# Altium footprint library XY-017.PcbLib: 1 footprints
Each footprint in its own frame and in the unit in brackets; x right, y up, seen from the top. Pads: shape width x height; smd on the part's side, far side on the other; paste and mask are expansions set on the pad; w line width, h text height; cw(c..) or ccw(c..) is an arc to the next point about the centre after c.
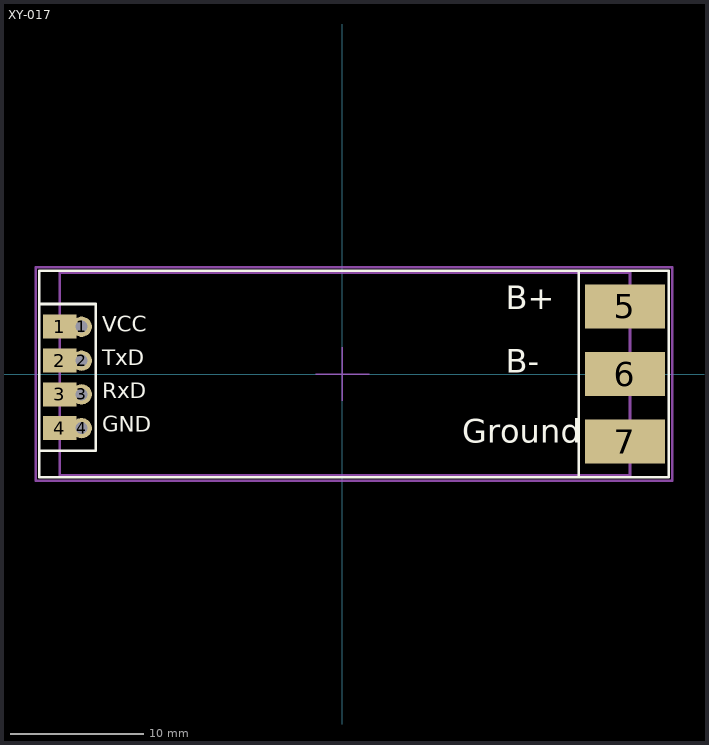
[diagram p0: the footprint, top view; thin cyan lines are the x and y axes]

## XY-017 [mm]
pads (11):
  rect 2.5x1.8 all layers, no hole: 1(-21.209,3.55) 2(-21.209,1) 3(-21.209,-1.53) 4(-21.209,-4.06)
  round 1.524 hole 0.9: 1(-19.558,3.55) 2(-19.558,1) 3(-19.558,-1.53) 4(-19.558,-4.06)
  rect 6x3.3 all layers, no hole: 5(21.209,5.08) 6(21.209,0) 7(21.209,-5.08)
Top Overlay:
  lines w0.2: -22.75,-5.75 -18.5,-5.75 -18.5,5.25 -22.75,5.25 ; 17.75,-7.75 17.75,7.75 ; -22.75,-7.75 -22.75,7.75 24.5,7.75 24.5,-7.75 -22.75,-7.75
  text "GND" at -18,-4.75 h2
  text "RxD" at -18,-2.25 h2
  text "TxD" at -18,0.25 h2
  text "VCC" at -18,2.75 h2
  text "Ground" at 9,-5.75 h3
  text "B-" at 12.25,-0.5 h3
  text "B+" at 12.25,4.25 h3
Mechanical 1:
  lines w0.2: -21.209,-7.62 21.591,-7.62 21.591,7.6 -21.209,7.6 -21.209,-7.62
Mechanical 15:
  lines w0.1: -1.997,0 2.003,0 ; 0,-1.999 0,2.001
  lines w0.2: -23,-8 -23,8 24.75,8 24.75,-8 -23,-8